# Altium footprint library TRIM_BOURNS_3296W.PcbLib: 1 footprints
Each footprint in its own frame and in the unit in brackets; x right, y up, seen from the top. Pads: shape width x height; smd on the part's side, far side on the other; paste and mask are expansions set on the pad; w line width, h text height; cw(c..) or ccw(c..) is an arc to the next point about the centre after c.
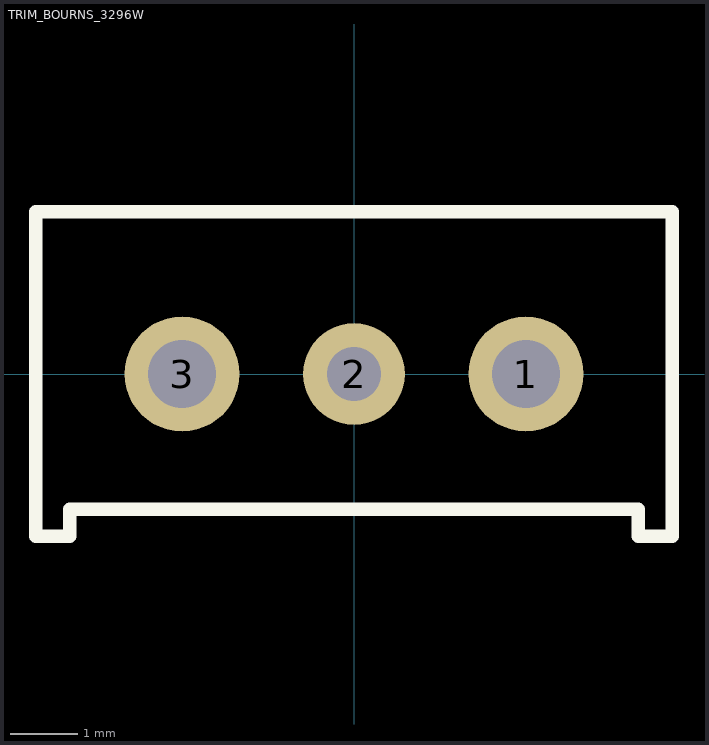
[diagram p0: the footprint, top view; thin cyan lines are the x and y axes]

## TRIM_BOURNS_3296W [mm] "Potentiometer"
height 10.3
pads (3):
  round 1.7 hole 1: 1(2.54,0) 3(-2.54,0)
  round 1.5 hole 0.8: 2(0,0)
Top Overlay:
  lines w0.2: -4.7,-2.4 -4.2,-2.4 -4.2,-2 0,-2 4.2,-2 4.2,-2.4 4.7,-2.4 4.7,0 4.7,2.4 0,2.4 -4.7,2.4 -4.7,0 -4.7,-2.4
3D body: height 10, standoff 0, extent -4.7,-2.4 4.7,2.4